# Altium footprint library PcbLib.PcbLib: 34 footprints (part 3 of 3)
Each footprint in its own frame and in the unit in brackets; x right, y up, seen from the top. Pads: shape width x height; smd on the part's side, far side on the other; paste and mask are expansions set on the pad; w line width, h text height; cw(c..) or ccw(c..) is an arc to the next point about the centre after c.
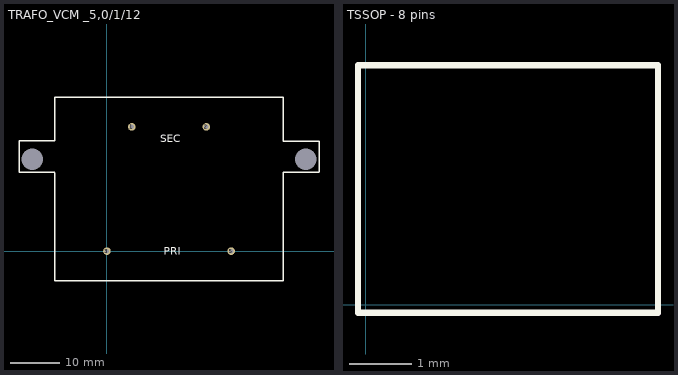
[diagram p2: the footprints below, top view; thin cyan lines are the x and y axes]

## TRAFO_VCM _5,0/1/12 [mm] "TRAFO_VCM _5,0/1/12"
pads (6):
  round 1.524 hole 0.9: 1(5,25) 2(20,25) 3(0,0) 5(25,0)
  round 1.524 hole 4.3: 14(-15,18.5) 15(40,18.5)
Top Overlay:
  lines w0.254: -10.525,15.825 -15.025,15.825 -17.675,15.825 -17.7,15.85 -17.7,22.15 -17.675,22.175 -10.55,22.175 -10.55,31 5.075,31 ; -10.5,0 -10.5,15.8 ; -10.5,0.15 -10.5,-6 35.5,-6 35.5,0 35.5,15.875 40,15.875 42.675,15.875 ; 5,31 35.45,31 35.45,22.15 42.675,22.15 42.675,15.95
  text "PRI" at 11.475,-0.75 h1.52
  text "SEC" at 10.75,21.9 h1.52

## TSSOP - 8 pins [mil] "PW0008A (TSSOP - 8 pins)"
Top Overlay:
  lines w3.94: -4.92,-4.92 186.02,-4.92 186.02,152.56 -4.92,152.56 -4.92,-4.92
Mechanical 1:
  lines w3.94: 186.02,-4.92 186.02,-4.92